# Altium footprint library Low_PWR.PcbLib: 51 footprints (part 2 of 4)
Each footprint in its own frame and in the unit in brackets; x right, y up, seen from the top. Pads: shape width x height; smd on the part's side, far side on the other; paste and mask are expansions set on the pad; w line width, h text height; cw(c..) or ccw(c..) is an arc to the next point about the centre after c.
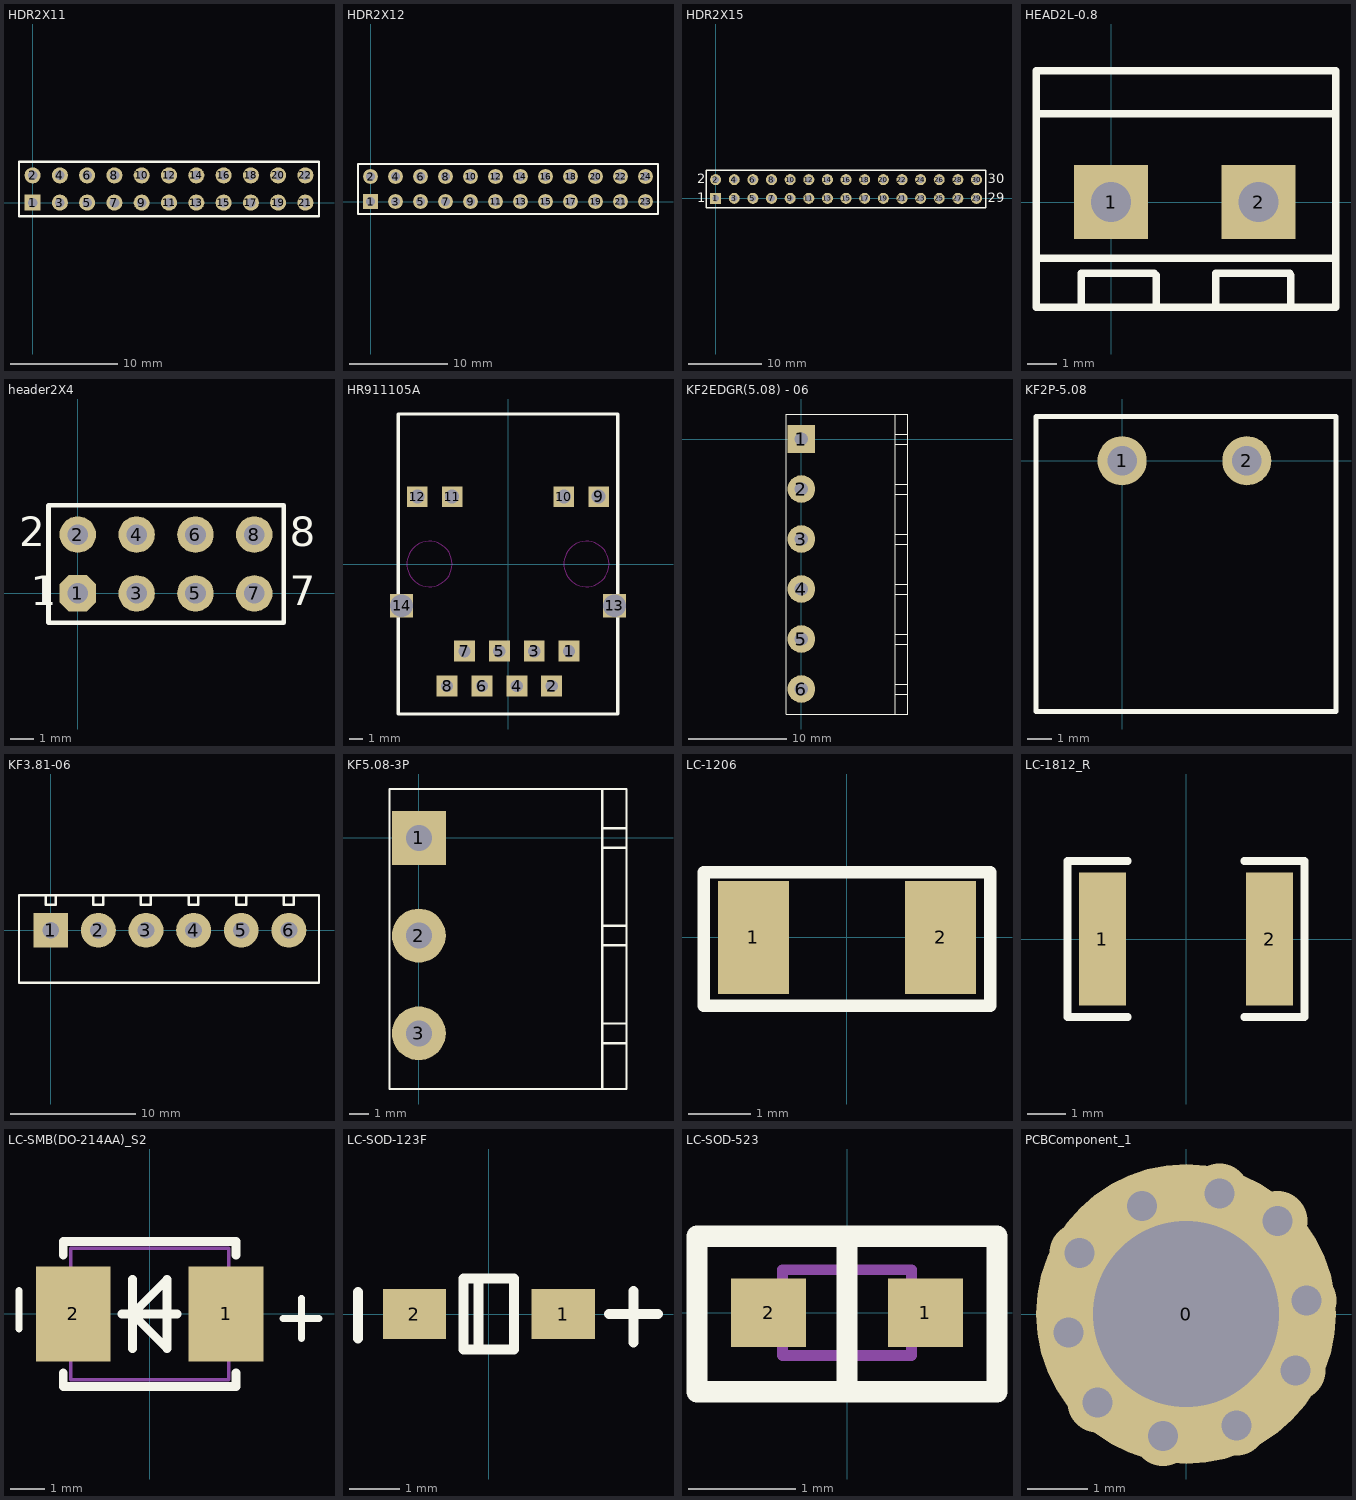
[diagram p1: the footprints below, top view; thin cyan lines are the x and y axes]

## HDR2X11 [mm] "Connector; Header; 11x2 Position"
pads (22):
  rect 1.5x1.5 hole 0.9: 1(0,0)
  round 1.5 hole 0.9: 2(0,2.54) 3(2.54,0) 4(2.54,2.54) 5(5.08,0) 6(5.08,2.54) 7(7.62,0) 8(7.62,2.54) 9(10.16,0) 10(10.16,2.54) 11(12.7,0) 12(12.7,2.54) 13(15.24,0) 14(15.24,2.54) 15(17.78,0) 16(17.78,2.54) 17(20.32,0) 18(20.32,2.54) 19(22.86,0) 20(22.86,2.54) 21(25.4,0) 22(25.4,2.54)
Top Overlay:
  lines w0.2: -1.27,-1.27 26.67,-1.27 26.67,3.81 -1.27,3.81 -1.27,-1.27
3D body "HEADER.STEP": height 7.58, standoff -2.94, extent -1.27,-1.27 1.27,1.27
3D body "HEADER.STEP": height 7.58, standoff -2.94, extent -1.27,1.27 1.27,3.81
3D body "HEADER.STEP": height 7.58, standoff -2.94, extent 1.27,-1.27 3.81,1.27
3D body "HEADER.STEP": height 7.58, standoff -2.94, extent 1.27,1.27 3.81,3.81
3D body "HEADER.STEP": height 7.58, standoff -2.94, extent 3.81,-1.27 6.35,1.27
3D body "HEADER.STEP": height 7.58, standoff -2.94, extent 3.81,1.27 6.35,3.81
3D body "HEADER.STEP": height 7.58, standoff -2.94, extent 6.35,-1.27 8.89,1.27
3D body "HEADER.STEP": height 7.58, standoff -2.94, extent 6.35,1.27 8.89,3.81
3D body "HEADER.STEP": height 7.58, standoff -2.94, extent 8.89,-1.27 11.43,1.27
3D body "HEADER.STEP": height 7.58, standoff -2.94, extent 8.89,1.27 11.43,3.81
3D body "HEADER.STEP": height 7.58, standoff -2.94, extent 11.43,-1.27 13.97,1.27
3D body "HEADER.STEP": height 7.58, standoff -2.94, extent 11.43,1.27 13.97,3.81
3D body "HEADER.STEP": height 7.58, standoff -2.94, extent 13.97,-1.27 16.51,1.27
3D body "HEADER.STEP": height 7.58, standoff -2.94, extent 13.97,1.27 16.51,3.81
3D body "HEADER.STEP": height 7.58, standoff -2.94, extent 16.51,-1.27 19.05,1.27
3D body "HEADER.STEP": height 7.58, standoff -2.94, extent 16.51,1.27 19.05,3.81
3D body "HEADER.STEP": height 7.58, standoff -2.94, extent 19.05,-1.27 21.59,1.27
3D body "HEADER.STEP": height 7.58, standoff -2.94, extent 19.05,1.27 21.59,3.81
3D body "HEADER.STEP": height 7.58, standoff -2.94, extent 21.59,-1.27 24.13,1.27
3D body "HEADER.STEP": height 7.58, standoff -2.94, extent 21.59,1.27 24.13,3.81
3D body "HEADER.STEP": height 7.58, standoff -2.94, extent 24.13,-1.27 26.67,1.27
3D body "HEADER.STEP": height 7.58, standoff -2.94, extent 24.13,1.27 26.67,3.81

## HDR2X12 [mm] "Connector; Header; 12x2 Position"
pads (24):
  rect 1.5x1.5 hole 0.9: 1(0,0)
  round 1.5 hole 0.9: 2(0,2.54) 3(2.54,0) 4(2.54,2.54) 5(5.08,0) 6(5.08,2.54) 7(7.62,0) 8(7.62,2.54) 9(10.16,0) 10(10.16,2.54) 11(12.7,0) 12(12.7,2.54) 13(15.24,0) 14(15.24,2.54) 15(17.78,0) 16(17.78,2.54) 17(20.32,0) 18(20.32,2.54) 19(22.86,0) 20(22.86,2.54) 21(25.4,0) 22(25.4,2.54) 23(27.94,0) 24(27.94,2.54)
Top Overlay:
  lines w0.2: -1.27,-1.27 -1.27,3.81 29.21,3.81 29.21,-1.27 -1.27,-1.27
3D body "HEADER.STEP": height 7.58, standoff -2.94, extent 26.67,1.27 29.21,3.81
3D body "HEADER.STEP": height 7.58, standoff -2.94, extent 26.67,-1.27 29.21,1.27
3D body "HEADER.STEP": height 7.58, standoff -2.94, extent 24.13,1.27 26.67,3.81
3D body "HEADER.STEP": height 7.58, standoff -2.94, extent 24.13,-1.27 26.67,1.27
3D body "HEADER.STEP": height 7.58, standoff -2.94, extent 21.59,1.27 24.13,3.81
3D body "HEADER.STEP": height 7.58, standoff -2.94, extent 21.59,-1.27 24.13,1.27
3D body "HEADER.STEP": height 7.58, standoff -2.94, extent 19.05,1.27 21.59,3.81
3D body "HEADER.STEP": height 7.58, standoff -2.94, extent 19.05,-1.27 21.59,1.27
3D body "HEADER.STEP": height 7.58, standoff -2.94, extent 16.51,1.27 19.05,3.81
3D body "HEADER.STEP": height 7.58, standoff -2.94, extent 16.51,-1.27 19.05,1.27
3D body "HEADER.STEP": height 7.58, standoff -2.94, extent 13.97,1.27 16.51,3.81
3D body "HEADER.STEP": height 7.58, standoff -2.94, extent 13.97,-1.27 16.51,1.27
3D body "HEADER.STEP": height 7.58, standoff -2.94, extent 11.43,1.27 13.97,3.81
3D body "HEADER.STEP": height 7.58, standoff -2.94, extent 11.43,-1.27 13.97,1.27
3D body "HEADER.STEP": height 7.58, standoff -2.94, extent 8.89,1.27 11.43,3.81
3D body "HEADER.STEP": height 7.58, standoff -2.94, extent 8.89,-1.27 11.43,1.27
3D body "HEADER.STEP": height 7.58, standoff -2.94, extent 6.35,1.27 8.89,3.81
3D body "HEADER.STEP": height 7.58, standoff -2.94, extent 6.35,-1.27 8.89,1.27
3D body "HEADER.STEP": height 7.58, standoff -2.94, extent 3.81,1.27 6.35,3.81
3D body "HEADER.STEP": height 7.58, standoff -2.94, extent 3.81,-1.27 6.35,1.27
3D body "HEADER.STEP": height 7.58, standoff -2.94, extent 1.27,1.27 3.81,3.81
3D body "HEADER.STEP": height 7.58, standoff -2.94, extent 1.27,-1.27 3.81,1.27
3D body "HEADER.STEP": height 7.58, standoff -2.94, extent -1.27,1.27 1.27,3.81
3D body "HEADER.STEP": height 7.58, standoff -2.94, extent -1.27,-1.27 1.27,1.27

## HDR2X15 [mm] "Connector; Header; 15x2 Position"
pads (30):
  rect 1.5x1.5 hole 0.9: 1(0,0)
  round 1.5 hole 0.9: 2(0,2.54) 3(2.54,0) 4(2.54,2.54) 5(5.08,0) 6(5.08,2.54) 7(7.62,0) 8(7.62,2.54) 9(10.16,0) 10(10.16,2.54) 11(12.7,0) 12(12.7,2.54) 13(15.24,0) 14(15.24,2.54) 15(17.78,0) 16(17.78,2.54) 17(20.32,0) 18(20.32,2.54) 19(22.86,0) 20(22.86,2.54) 21(25.4,0) 22(25.4,2.54) 23(27.94,0) 24(27.94,2.54) 25(30.48,0) 26(30.48,2.54) 27(33.02,0) 28(33.02,2.54) 29(35.56,0) 30(35.56,2.54)
Top Overlay:
  lines w0.2: -1.27,-1.27 36.83,-1.27 36.83,3.81 -1.27,3.81 -1.27,-1.27
  text "1" at -2.54,-0.508 h1.27
  text "2" at -2.54,2.032 h1.27
  text "29" at 37.084,-0.508 h1.27
  text "30" at 37.084,2.032 h1.27
3D body "HDR2x15.STEP": height 8.54, standoff -3, extent -1.27,-1.27 36.83,3.81

## HEAD2L-0.8 [mm] "10.16mm*10.16mm,pin:5.08mm"
height 15
pads (2):
  rect 2.5x2.5 hole 1.35: 1(0,0) 2(5,0)
Top Overlay:
  lines w0.254: -2.54,-1.905 7.62,-1.905 ; -2.54,3 7.62,3 ; -1.016,-3.556 -1.016,-2.476 ; -1.016,-2.413 1.461,-2.413 1.524,-2.476 1.524,-3.556 ; 3.556,-3.493 3.556,-2.413 6.056,-2.413 ; 6.096,-3.556 6.096,-2.476 ; -2.54,-3.556 -2.54,4.445 7.62,4.445 7.62,-3.556 -2.54,-3.556

## header2X4 [mil]
pads (8):
  oct 62x62 hole 35: 1(0,0)
  round 62 hole 35: 2(0,100) 3(100,0) 4(100,100) 5(200,0) 6(200,100) 7(300,0) 8(300,100)
Top Overlay:
  lines w8: -50,-50 350,-50 350,150 -50,150 -50,-50
  text "2" at -100,80 h50
  text "1" at -80,-20 h50
  text "7" at 360,-20 h50
  text "8" at 360,80 h50
3D body "HEADER 4X2.STEP": height 397.64, standoff -59.06, extent -50,-50 350,150

## HR911105A [mm] "NET_WORK"
height 11
pads (14):
  rect 1.524x1.524 hole 0.889: 1(4.45,-6.35) 2(3.18,-8.89) 3(1.91,-6.35) 4(0.64,-8.89) 5(-0.63,-6.35) 6(-1.9,-8.89) 7(-3.17,-6.35) 8(-4.44,-8.89)
  rect 1.5x1.5 hole 1.02: 9(6.6,4.9) 10(4.064,4.9) 11(-4.064,4.9) 12(-6.6,4.9)
  rect 1.7x1.7 hole 1.65: 13(7.75,-3.048) 14(-7.75,-3.048)
Top Overlay:
  lines w0.254: -8,-10.922 0,-10.922 8,-10.922 8,10.922 0,10.922 -8,10.922 -8,-10.922
Keep-Out Layer:
  circle w0.051: c-5.714,0 r1.65
  circle w0.051: c5.716,0 r1.65

## KF2EDGR(5.08) - 06 [mm] "拔插接线端子   卧式"
pads (6):
  rect 2.8x2.8 hole 1.35: 1(0,0)
  round 2.8 hole 1.35: 2(0,-5.08) 3(0,-10.16) 4(0,-15.24) 5(0,-20.32) 6(0,-25.4)
Top Overlay:
  lines w0.127: 9.525,-27.94 9.525,2.54 ; 9.525,-25.908 10.795,-25.908 ; 9.525,-24.892 10.795,-24.892 ; 9.525,-20.828 10.795,-20.828 ; 9.525,-19.812 10.795,-19.812 ; 9.525,-15.748 10.795,-15.748 ; 9.525,-14.732 10.795,-14.732 ; 9.525,-10.668 10.795,-10.668 ; 9.525,-9.652 10.795,-9.652 ; 9.525,-5.588 10.795,-5.588 ; 9.525,-4.572 10.795,-4.572 ; 9.525,-0.508 10.795,-0.508 ; 9.525,0.508 10.795,0.508 ; -1.524,-27.94 10.795,-27.94 10.795,2.54 -1.524,2.54 -1.524,-27.94

## KF2P-5.08 [mm]
height 0.9
pads (2):
  round 2 hole 1.2: 1(0,0) 2(5.08,0)
Top Overlay:
  lines w0.2: -3.505,-10.211 -3.505,1.803 8.712,1.803 8.712,-10.211 -3.505,-10.211
3D body "14043.stp": height 8.6, standoff -3.5, extent -3.464,-10.109 8.696,1.893

## KF3.81-06 [mm]
pads (6):
  rect 2.8x2.8 hole 1.35: 1(0,0)
  round 2.8 hole 1.35: 2(3.81,0) 3(7.62,0) 4(11.43,0) 5(15.24,0) 6(19.05,0)
Top Overlay:
  lines w0.2: -0.406,2.718 -0.406,2.057 0.381,2.057 0.381,2.769 ; 3.404,2.718 3.404,2.057 4.191,2.057 4.191,2.769 ; 7.214,2.718 7.214,2.057 8.001,2.057 8.001,2.769 ; 11.024,2.718 11.024,2.057 11.811,2.057 11.811,2.769 ; 14.834,2.718 14.834,2.057 15.621,2.057 15.621,2.769 ; 18.644,2.718 18.644,2.057 19.431,2.057 19.431,2.769 ; -2.54,-4.2 21.46,-4.2 21.46,2.8 -2.54,2.8 -2.54,-4.2

## KF5.08-3P [mm]
pads (3):
  rect 2.8x2.8 hole 1.35: 1(0,0)
  round 2.8 hole 1.35: 2(0,-5.08) 3(0,-10.16)
Top Overlay:
  lines w0.127: 9.525,-13.03 9.525,2.54 ; 9.525,-10.668 10.795,-10.668 ; 9.525,-9.652 10.795,-9.652 ; 9.525,-5.588 10.795,-5.588 ; 9.525,-4.572 10.795,-4.572 ; 9.525,-0.508 10.795,-0.508 ; 9.525,0.508 10.795,0.508 ; -1.524,-13.056 10.795,-13.056 10.795,2.54 -1.524,2.54 -1.524,-13.056

## LC-1206 [mm]
pads (2):
  rect 1.13x1.8 smd: 1(-1.49,0) 2(1.49,0)
Top Overlay:
  lines w0.2: -2.286,-1.092 -2.286,1.041 2.286,1.041 2.286,-1.092 -2.286,-1.092

## LC-1812_R [mm]
pads (2):
  rect 1.2x3.42 smd: 1(-2.15,0) 2(2.15,0)
Top Overlay:
  lines w0.2: -1.5,-2.01 -3.05,-2.01 -3.05,2.01 -1.5,2.01 ; 1.5,-2.01 3.05,-2.01 3.05,2.01 1.5,2.01
3D body "R1812.STEP": height 0.59, standoff -0.01, extent -2.251,-1.6 2.249,1.6

## LC-SMB(DO-214AA)_S2 [mm]
pads (2):
  rect 2.159x2.743 smd: 1(2.21,0) 2(-2.21,0)
Top Overlay:
  lines w0.2: -3.785,-0.432 -3.785,0.686 ; 3.861,-0.127 4.902,-0.127 ; 4.394,-0.711 4.394,0.457
  lines w0.254: -2.5,-1.7 -2.5,-2.1 2.5,-2.1 2.5,-1.7 ; -2.5,1.7 -2.5,2.1 2.5,2.1 2.5,1.7 ; -0.8,0 0.8,0 ; -0.5,-1 -0.5,1 ; -0.5,0 0.5,1 0.5,-1 -0.5,0
Mechanical 13:
  lines w0.1: -2.285,-1.905 2.285,-1.905 2.285,1.905 -2.285,1.905 -2.285,-1.905

## LC-SOD-123F [mm]
pads (2):
  rect 1.25x1 smd: 1(1.475,0) 2(-1.475,0)
Top Overlay:
  lines w0.2: -2.591,-0.483 -2.591,0.432 ; -0.2,-0.7 -0.2,0.7 ; 2.388,0 3.353,0 ; 2.87,-0.559 2.87,0.457 ; -0.5,-0.7 -0.5,0.7 0.5,0.7 0.5,-0.7 -0.5,-0.7
3D body "SOD123F.STEP": height 1.2, standoff -0.01, extent -1.9,-0.849 1.85,0.85

## LC-SOD-523 [mm]
pads (2):
  rect 0.7x0.64 smd: 1(0.73,0) 2(-0.73,0)
Top Overlay:
  lines w0.2: 0,-0.711 0,0.698 ; -1.397,-0.737 1.397,-0.737 1.397,0.711 -1.397,0.711 -1.397,-0.737
Mechanical 13:
  lines w0.1: -0.6,-0.4 0.6,-0.4 0.6,0.4 -0.6,0.4 -0.6,-0.4
3D body "SOD523.STEP": height 0.7, standoff 0, extent -0.8,-0.399 0.8,0.399

## PCBComponent_1 [mm]
pads (1):
  round 5 hole 3.1 unplated: 0(0,0)
via 2.007,0.229 diameter 1 hole 0.5
via 1.829,-0.94 diameter 1 hole 0.5
via 0.838,-1.854 diameter 1 hole 0.5
via -0.381,-2.032 diameter 1 hole 0.5
via -1.473,-1.473 diameter 1 hole 0.5
via -1.956,-0.305 diameter 1 hole 0.5
via -1.778,1.016 diameter 1 hole 0.5
via -0.737,1.803 diameter 1 hole 0.5
via 0.559,2.007 diameter 1 hole 0.5
via 1.524,1.549 diameter 1 hole 0.5